# Altium integrated library AVR_RCS.IntLib: 34 symbols
Pins are listed as number, name and electrical type; pins without a type are passive.

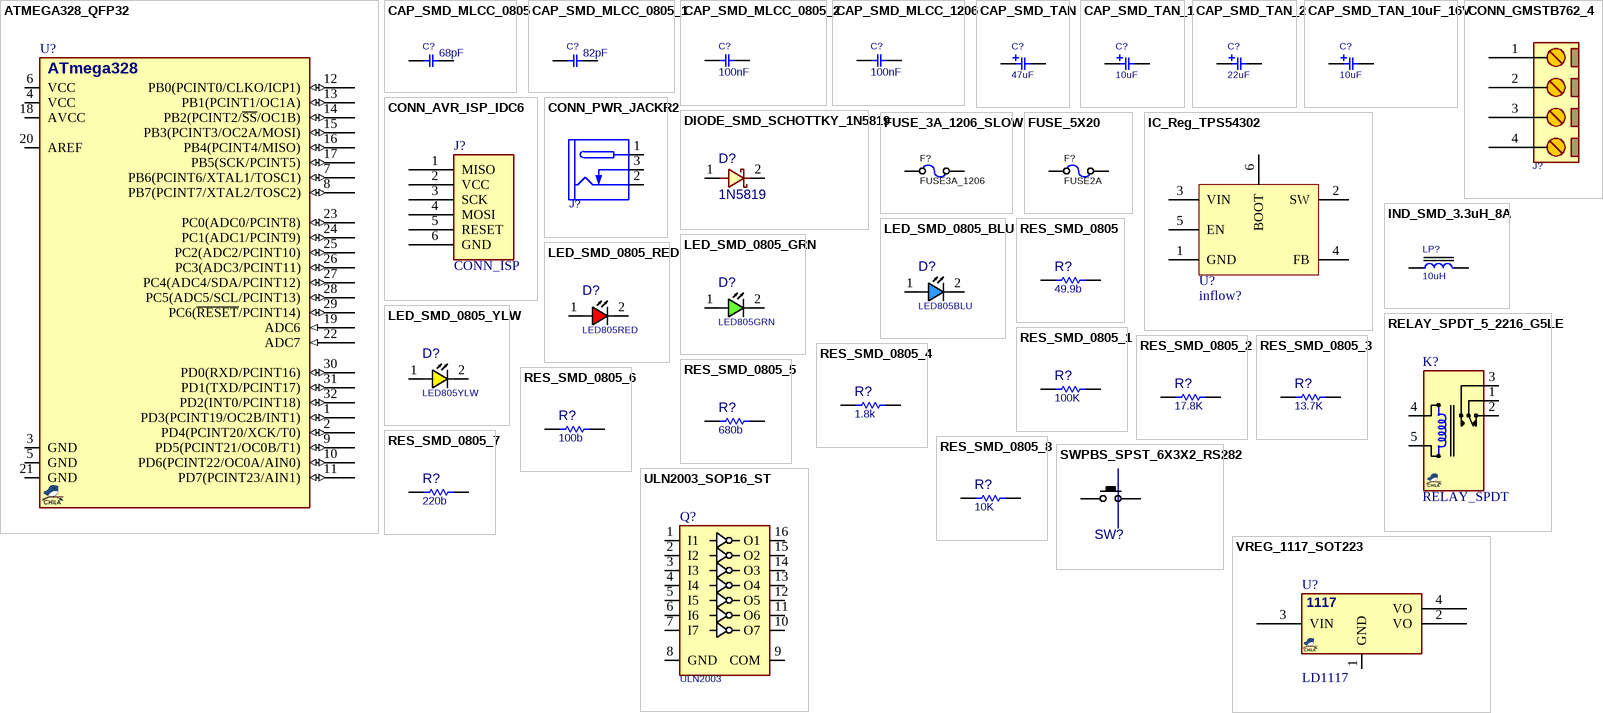
[diagram p0: symbols ATMEGA328_QFP32 to VREG_1117_SOT223]

## ATMEGA328_QFP32
designator U?, comment ATMEGA328  (value not drawn)
MCU, AVR, 8-Bit, 16KB, 1KB RAM, 20MHz; PART#ALT: ATmega8-48-88-168-328; MANF_P#: ATMEGA328-AU; DESC: 1KB EEPROM; MANF: ATMEL/MICROCHIP; PARAM2: 1.8~5.5V; PARAM: 32KB, 2KB RAM, 20MHz, -40~85°C; PRICE: 2.2$; VALUE: ATMEGA328
footprint QFG80_32 (TQFP32, A32 (Cypress), GP32 (Zarlink), MS-026ABA(JEDEC), 7X7mm, 0.8mm)
pins: 1 PD3(PCINT19/OC2B/INT1) (io), 2 PD4(PCINT20/XCK/T0) (io), 3 GND (power), 4 VCC (power), 5 GND (power), 6 VCC (power), 7 PB6(PCINT6/XTAL1/TOSC1) (io), 8 PB7(PCINT7/XTAL2/TOSC2) (io), 9 PD5(PCINT21/OC0B/T1) (io), 10 PD6(PCINT22/OC0A/AIN0) (io), 11 PD7(PCINT23/AIN1) (io), 12 PB0(PCINT0/CLKO/ICP1) (io), 13 PB1(PCINT1/OC1A) (io), 14 PB2(PCINT2/~{SS}/OC1B) (io), 15 PB3(PCINT3/OC2A/MOSI) (io), 16 PB4(PCINT4/MISO) (io), 17 PB5(SCK/PCINT5) (io), 18 AVCC (power), 19 ADC6 (in), 20 AREF, 21 GND (power), 22 ADC7 (in), 23 PC0(ADC0/PCINT8) (io), 24 PC1(ADC1/PCINT9) (io), 25 PC2(ADC2/PCINT10) (io), 26 PC3(ADC3/PCINT11) (io), 27 PC4(ADC4/SDA/PCINT12) (io), 28 PC5(ADC5/SCL/PCINT13) (io), 29 PC6(~{RESET}/PCINT14) (io), 30 PD0(RXD/PCINT16) (io), 31 PD1(TXD/PCINT17) (io), 32 PD2(INT0/PCINT18) (io)
text: ATmega328

## CAP_SMD_MLCC_0805
designator C?, comment 68pF
CAP, MLCC; PARAM: -, -%; MANF_P#: MANF_PART#; PARAM2: -V; PRICE: 100= 1$; MANF: -; ASSEMBLY: ASSEMBLY; VALUE: 68pF
footprint C0805 (CHIP Capacitor, 2.0X1.3mm, 0805)
pins: 1, 2

## CAP_SMD_MLCC_0805_1
designator C?, comment 82pF
CAP, MLCC; PARAM: -, -%; MANF_P#: MANF_PART#; PARAM2: -V; PRICE: 100= 1$; MANF: -; ASSEMBLY: ASSEMBLY; VALUE: 82pF
footprint C0805 (CHIP Capacitor, 2.0X1.3mm, 0805)
pins: 1, 2

## CAP_SMD_MLCC_0805_2
designator C?, comment 100nF
CAP, MLCC; PARAM: -, -%; MANF_P#: MANF_PART#; PARAM2: -V; PRICE: 100= 1$; MANF: -; ASSEMBLY: ASSEMBLY; VALUE: 100nF
footprint C0805 (CHIP Capacitor, 2.0X1.3mm, 0805)
pins: 1, 2

## CAP_SMD_MLCC_1206
designator C?, comment 100nF
CAP, MLCC; PARAM: -, -%; MANF_P#: MANF_PART#; PARAM2: -V; PRICE: 100= 1$; MANF: -; ASSEMBLY: ASSEMBLY; VALUE: 100nF
footprint C1206 (CHIP Capacitor, 3.2X1.6mm, 1206)
pins: 1, 2

## CAP_SMD_TAN
designator C?, comment 47uF
CAP, SMD, TAN; PARAM: 20%, 300mOhm, -55~105oC; MANF: VISHAY; MANF_P#: T55A106M6R3C0300; PARAM2: 6.3V; PRICE: 0.46$; VALUE: 47uF
footprint C_TN_3528 (CAPACITOR, TAN B, TAN H, TAN T, TAN M, 3528P, 1210P, 3.5X2.8mm)
footprint C_TN_3216 (CAPACITOR, TAN A, 1206P, 3.2x1.6mm)
footprint C_TN_2012 (CAPACITOR, TAN N, TAN P, TAN R, 0805P, 2X1.3mm)
footprint C_TN_3216_BLK (CAPACITOR, TAN A, 3.2x1.6mm, BLACK)
footprint C_TN_3528_BLK (CAPACITOR, TAN B, 3.5X2.8mm, BLACK)
footprint C_TN_6032 (CAPACITOR, TAN C, TAN F, TAN U, TAN L, 6032P, 6.0X3.2mm)
footprint C_TN_6032_BLK (CAPACITOR, TAN C, 6.0X3.2mm, BLACK)
footprint C_TN_7343 (CAPACITOR, TAN D, TAN E, TAN Y, TAN X, 7343P, 7.3X4.3mm)
footprint C_TN_7343_31 (CAPACITOR, TAN D, TAN E, TAN Y, TAN X, 7343P, 7.3X4.3mm)
footprint C_TN_7343_31_BLK (CAPACITOR, TAN D, 7.3X4.3mm, BLACK)
footprint C_TN_7361 (CAPACITOR, TAN V, 2924, 7361, 7.3X6.1mm)
pins: 1, 2

## CAP_SMD_TAN_1
designator C?, comment 10uF
CAP, SMD, TAN; PARAM: 20%, 300mOhm, -55~105oC; MANF: VISHAY; MANF_P#: T55A106M6R3C0300; PARAM2: 6.3V; PRICE: 0.46$; VALUE: 10uF
footprint C_TN_3528 (CAPACITOR, TAN B, TAN H, TAN T, TAN M, 3528P, 1210P, 3.5X2.8mm)
footprint C_TN_3216 (CAPACITOR, TAN A, 1206P, 3.2x1.6mm)
footprint C_TN_2012 (CAPACITOR, TAN N, TAN P, TAN R, 0805P, 2X1.3mm)
footprint C_TN_3216_BLK (CAPACITOR, TAN A, 3.2x1.6mm, BLACK)
footprint C_TN_3528_BLK (CAPACITOR, TAN B, 3.5X2.8mm, BLACK)
footprint C_TN_6032 (CAPACITOR, TAN C, TAN F, TAN U, TAN L, 6032P, 6.0X3.2mm)
footprint C_TN_6032_BLK (CAPACITOR, TAN C, 6.0X3.2mm, BLACK)
footprint C_TN_7343 (CAPACITOR, TAN D, TAN E, TAN Y, TAN X, 7343P, 7.3X4.3mm)
footprint C_TN_7343_31 (CAPACITOR, TAN D, TAN E, TAN Y, TAN X, 7343P, 7.3X4.3mm)
footprint C_TN_7343_31_BLK (CAPACITOR, TAN D, 7.3X4.3mm, BLACK)
footprint C_TN_7361 (CAPACITOR, TAN V, 2924, 7361, 7.3X6.1mm)
pins: 1, 2

## CAP_SMD_TAN_2
designator C?, comment 22uF
CAP, SMD, TAN; PARAM: 20%, 300mOhm, -55~105oC; MANF: VISHAY; MANF_P#: T55A106M6R3C0300; PARAM2: 6.3V; PRICE: 0.46$; VALUE: 22uF
footprint C_TN_3528 (CAPACITOR, TAN B, TAN H, TAN T, TAN M, 3528P, 1210P, 3.5X2.8mm)
footprint C_TN_3216 (CAPACITOR, TAN A, 1206P, 3.2x1.6mm)
footprint C_TN_2012 (CAPACITOR, TAN N, TAN P, TAN R, 0805P, 2X1.3mm)
footprint C_TN_3216_BLK (CAPACITOR, TAN A, 3.2x1.6mm, BLACK)
footprint C_TN_3528_BLK (CAPACITOR, TAN B, 3.5X2.8mm, BLACK)
footprint C_TN_6032 (CAPACITOR, TAN C, TAN F, TAN U, TAN L, 6032P, 6.0X3.2mm)
footprint C_TN_6032_BLK (CAPACITOR, TAN C, 6.0X3.2mm, BLACK)
footprint C_TN_7343 (CAPACITOR, TAN D, TAN E, TAN Y, TAN X, 7343P, 7.3X4.3mm)
footprint C_TN_7343_31 (CAPACITOR, TAN D, TAN E, TAN Y, TAN X, 7343P, 7.3X4.3mm)
footprint C_TN_7343_31_BLK (CAPACITOR, TAN D, 7.3X4.3mm, BLACK)
footprint C_TN_7361 (CAPACITOR, TAN V, 2924, 7361, 7.3X6.1mm)
pins: 1, 2

## CAP_SMD_TAN_10uF_16V
designator C?, comment 10uF
CAP, SMD, TAN; PARAM: 20%, 200mOhm, -55~105oC; MANF: AVX; MANF_P#: TCJT106M016R0200; PARAM2: 25V; PRICE: 1$; VALUE: 10uF
footprint C_TN_3528 (CAPACITOR, TAN B, TAN H, TAN T, TAN M, 3528P, 1210P, 3.5X2.8mm)
pins: 1, 2

## CONN_AVR_ISP_IDC6
designator J?, comment CONN_ISP
CONN, ISP, AVR , HEADER BOX; VALUE: CONN_ISP
footprint IDC_2X3
pins: 1 MISO, 2 VCC, 3 SCK, 4 MOSI, 5 RESET, 6 GND

## CONN_GMSTB762_4
designator J?, comment CONN_GMSTB4  (value not drawn)
CONN, PHOENIX MSTB, 5-G, 5.08mm pitch; MANF_P#: GMSTB 2,5/4-G-7,62; PARAM2: 630V; PARAM: 12A; VALUE: CONN_GMSTB4
footprint GMSTB762_4 (PHOENIX, GMSTB 2,5/4-G-7,62, 7.62mm pitch, 4pin)
pins: 1, 2, 3, 4

## CONN_PWR_JACKR2
designator J?, comment DC_POWER_JACK  (value not drawn)
CONN, PWR JACK DC, PLUG DIAM 2.0MM RA THD; MANF: CUI STACK; MANF_P#: PJ-202A, PJ-002AH, PJ-102AH, KLDX-0202; VALUE: DC_POWER_JACK
footprint JAC_PWR2 (DC POWER JACK, Power Jack KLDX-0202)
pins: 1 TIP (power), 2 SLEEVE (power), 3 INSERTION_DET (power)

## DIODE_SMD_SCHOTTKY_1N5819
designator D?, comment 1N5819
DIODE, SCHOTTKY, 40V, 1A; MANF: DIODES; MANF_P#: 1N5819HW-7-F; DESC: DESCRIPTION; ASSEMBLY: ASSEMBLY; PRICE: PRICE; PARAM2: 1A; PARAM: 40V; VALUE: 1N5819
footprint D_SOD123W (1206D, SOD123, miniMELF, DO-213AA, MLL34, 320X160D)
pins: 1, 2

## FUSE_3A_1206_SLOW
designator F?, comment FUSE3A_1206
Fuse, 3A, 32VDC, 1206, SMD, Slow Blow; PARAM: 2A; MANF: Bourns; MANF_P#: SF-1206SP300-2; PARAM2: 0.027Ohm; PRICE: 0.9$; VALUE: FUSE3A_1206
footprint F1206 (FUSE, 1206, 3.2x1.6mm)
pins: 1, 2

## FUSE_5X20
designator F?, comment FUSE2A
Fuse HOLDER 5X20; PARAM: 3A; MANF_P#: MANF_PART#; MANF: MANF; PARAM2: PARAM2; VALUE: FUSE2A
footprint FUSH_5X20MM (PCB Fuse Holder 5x20mm 2 PIN, pitch: 15.0mm  24x9mm)
footprint FUSH_5X20MM_4PIN (PCB Fuse Holder 5x20mm 4 PIN)
pins: 1, 2

## IC_Reg_TPS54302
designator U?, comment Inflow: inflow?  (hidden comment: Value?)
3'A Synchronous Step-Down Converter; Rating: S; Value: Value?; Type: Switching; Package: SOT-23-6
footprint SOT23-6 (SOT-457/SC-74; 6 Leads; Body 3 x 3 mm, inc. leads (LxW max))
pins: 1 GND (power), 2 SW (power), 3 VIN (power), 4 FB (power), 5 EN (power), 6 BOOT (power)

## IND_SMD_3.3uH_8A
designator LP?, comment 10uH
INDUCTOR, 3.3uH, 3.8A TDK; DESC: INDUCTOR, 3.3uH, 8A (Irms), 10mOhm; MANF: Bourns; PARAM2: 10mOhm; MANF_P#: SRP7050TA-3R3M; PARAM: 3.8A; PRICE: 1.3$; ASSEMBLY: ASSEMBLY; VALUE: 10uH
footprint L_7 (INDUCTOR, 7.2X6.9mm, 7.1X6.5mm, SPM6530)
pins: 1, 2

## LED_SMD_0805_BLU
designator D?, comment LED805BLU
LED, SMD, 0805, BLUE; DESC: DESCRIPTION; MANF_P#: MANF_PART#; PARAM2: 2.2V; MANF: MANF; ASSEMBLY: ASSEMBLY; PRICE: 36t@Javan; VALUE: LED805BLU
footprint LED0805BLU (LED SMD 0805, BLUE)
pins: 1 ANODE, 2 CATHODE

## LED_SMD_0805_GRN
designator D?, comment LED805GRN
LED, SMD, 0805, GREEN; PARAM: 20mA; DESC: DESCRIPTION; PARAM2: 2.2V; MANF: -; ASSEMBLY: ASSEMBLY; PRICE: 36t@Javan; MANF_P#: -; VALUE: LED805GRN
footprint LED0805GRN (LED SMD 0805, GREEN)
pins: 1 ANODE, 2 CATHODE

## LED_SMD_0805_RED
designator D?, comment LED805RED
LED, SMD, 0805, RED; DESC: DESCRIPTION; MANF_P#: MANF_PART#; PARAM2: 2.2V; MANF: MANF; ASSEMBLY: ASSEMBLY; PRICE: 36t@Javan; VALUE: LED805RED
footprint LED0805RED (LED SMD 0805, RED)
pins: 1 ANODE, 2 CATHODE

## LED_SMD_0805_YLW
designator D?, comment LED805YLW
LED, SMD, 0805, YELLOW; DESC: DESCRIPTION; MANF_P#: MANF_PART#; PARAM2: 2.2V; MANF: MANF; ASSEMBLY: ASSEMBLY; PRICE: 36t@Javan; VALUE: LED805YLW
footprint LED0805YLW (LED SMD 0805, YELLOW)
pins: 1 ANODE, 2 CATHODE

## RELAY_SPDT_5_2216_G5LE
designator K?, comment RELAY_SPDT
Relay, SPDT, 5P, 22X16mm, 120V/10A; MANF: OMRON; MANF_P#: G5LE-1; PARAM2: 250VAC, 10A; PARAM: 12V, 50mA; PRICE: PRICE; Value: RELAY_SPDT
footprint REL_SPDT_5_2216 (RELAY SPDT, OMRON G5LE SERIES, 22X16mm and 18.8x15.4mm, HJR-3FF, RAS-1215)
simulation model SPDTRELAY (Spice Subcircuit)
pins: 1 COM, 2 NC, 3 NO, 4 T1, 5 T2

## RES_SMD_0805
designator R?, comment 49.9b
RESISTOR, SMD; PARAM: -W; DESC: DESCRIPTION; DIST#: MOUSER; PARAM2: 1%; MANF_P#: -; MANF: -; ASSEMBLY: ASSEMBLY; PRICE: 100= 0.5$; VALUE: 49.9b
footprint R0805 (CHIP RESISTOR 1/8 WATT ,2.0X1.3mm, 0805, 2012)
pins: 1, 2

## RES_SMD_0805_1
designator R?, comment 100K
RESISTOR, SMD; PARAM: -W; DESC: DESCRIPTION; DIST#: MOUSER; PARAM2: 1%; MANF_P#: -; MANF: -; ASSEMBLY: ASSEMBLY; PRICE: 100= 0.5$; VALUE: 100K
footprint R0805 (CHIP RESISTOR 1/8 WATT ,2.0X1.3mm, 0805, 2012)
pins: 1, 2

## RES_SMD_0805_2
designator R?, comment 17.8K
RESISTOR, SMD; PARAM: -W; DESC: DESCRIPTION; DIST#: MOUSER; PARAM2: 1%; MANF_P#: -; MANF: -; ASSEMBLY: ASSEMBLY; PRICE: 100= 0.5$; VALUE: 17.8K
footprint R0805 (CHIP RESISTOR 1/8 WATT ,2.0X1.3mm, 0805, 2012)
pins: 1, 2

## RES_SMD_0805_3
designator R?, comment 13.7K
RESISTOR, SMD; PARAM: -W; DESC: DESCRIPTION; DIST#: MOUSER; PARAM2: 1%; MANF_P#: -; MANF: -; ASSEMBLY: ASSEMBLY; PRICE: 100= 0.5$; VALUE: 13.7K
footprint R0805 (CHIP RESISTOR 1/8 WATT ,2.0X1.3mm, 0805, 2012)
pins: 1, 2

## RES_SMD_0805_4
designator R?, comment 1.8k
RESISTOR, SMD; PARAM: -W; DESC: DESCRIPTION; DIST#: MOUSER; PARAM2: 1%; MANF_P#: -; MANF: -; ASSEMBLY: ASSEMBLY; PRICE: 100= 0.5$; VALUE: 1.8k
footprint R0805 (CHIP RESISTOR 1/8 WATT ,2.0X1.3mm, 0805, 2012)
pins: 1, 2

## RES_SMD_0805_5
designator R?, comment 680b
RESISTOR, SMD; PARAM: -W; DESC: DESCRIPTION; DIST#: MOUSER; PARAM2: 1%; MANF_P#: -; MANF: -; ASSEMBLY: ASSEMBLY; PRICE: 100= 0.5$; VALUE: 680b
footprint R0805 (CHIP RESISTOR 1/8 WATT ,2.0X1.3mm, 0805, 2012)
pins: 1, 2

## RES_SMD_0805_6
designator R?, comment 100b
RESISTOR, SMD; PARAM: -W; DESC: DESCRIPTION; DIST#: MOUSER; PARAM2: 1%; MANF_P#: -; MANF: -; ASSEMBLY: ASSEMBLY; PRICE: 100= 0.5$; VALUE: 100b
footprint R0805 (CHIP RESISTOR 1/8 WATT ,2.0X1.3mm, 0805, 2012)
pins: 1, 2

## RES_SMD_0805_7
designator R?, comment 220b
RESISTOR, SMD; PARAM: -W; DESC: DESCRIPTION; DIST#: MOUSER; PARAM2: 1%; MANF_P#: -; MANF: -; ASSEMBLY: ASSEMBLY; PRICE: 100= 0.5$; VALUE: 220b
footprint R0805 (CHIP RESISTOR 1/8 WATT ,2.0X1.3mm, 0805, 2012)
pins: 1, 2

## RES_SMD_0805_8
designator R?, comment 10K
RESISTOR, SMD; PARAM: -W; DESC: DESCRIPTION; DIST#: MOUSER; PARAM2: 1%; MANF_P#: -; MANF: -; ASSEMBLY: ASSEMBLY; PRICE: 100= 0.5$; VALUE: 10K
footprint R0805 (CHIP RESISTOR 1/8 WATT ,2.0X1.3mm, 0805, 2012)
pins: 1, 2

## SWPBS_SPST_6X3X2_RS282
designator SW?, comment PUSHBUTTON  (value not drawn)
SWITCH, PUSH BUTTON, TACTILE, SMD, SPST, 6X3.5X2.5mm; MANF: C&K; DESC: DESCRIPTION; MANF_P#: RS-282G05A3-SM RT; VALUE: PUSHBUTTON; ASSEMBLY: ASSEMBLY; PARAM: PARAM; PRICE: 0.8$
footprint SWPBS_SPST_6X3X2 (SWITCH, PUSHBUTTON, SMD, SPST, 6X3.5X2.5mm, RS-282G05A3, SKQYPA, 50000 Cycles)
pins: 1 P1, 2 P3

## ULN2003_SOP16_ST
designator Q?, comment ULN2003
Darlington, 7-CH, 50V, 0.5A, 5V TTL/CMOS; MANF_P#: ULN2003D1; MANF: ST; PARAM: 7-CH, 50V, 0.5A; PARAM2: 5V TTL/CMOS; VALUE: ULN2003
footprint SO_16 (SOP, SOIC, 3.9mm width, 1.27mm pitch,)
pins: 1 I1, 2 I2, 3 I3, 4 I4, 5 I5, 6 I6, 7 I7, 8 GND, 9 COM, 10 O7, 11 O6, 12 O5, 13 O4, 14 O3, 15 O2, 16 O1

## VREG_1117_SOT223
designator U?, comment LD1117
REG, Linear, LDO1V, 0.8A, SOT-223; MANF_P#: LD1117, LM1117, AMS1117, TLV1117, REG1117, NCP1117, LT1117, SPX1117; MANF: TI, ON, ST; PARAM2: 1.2/1.5/1.8/2.5/2.85/3.3/5V; PARAM: LDO1V, 0.8A; VALUE: LD1117
footprint SOT223_4 (SOT223, 4-Leads, Body 6.5x3.5mm, Pitch 2.30mm)
pins: 1 GND, 2 VO, 3 VIN, 4 VO
text: 1117